# Altium footprint library 653 1xx 124 022.PcbLib: 14 footprints
Each footprint in its own frame and in the unit in brackets; x right, y up, seen from the top. Pads: shape width x height; smd on the part's side, far side on the other; paste and mask are expansions set on the pad; w line width, h text height; cw(c..) or ccw(c..) is an arc to the next point about the centre after c.
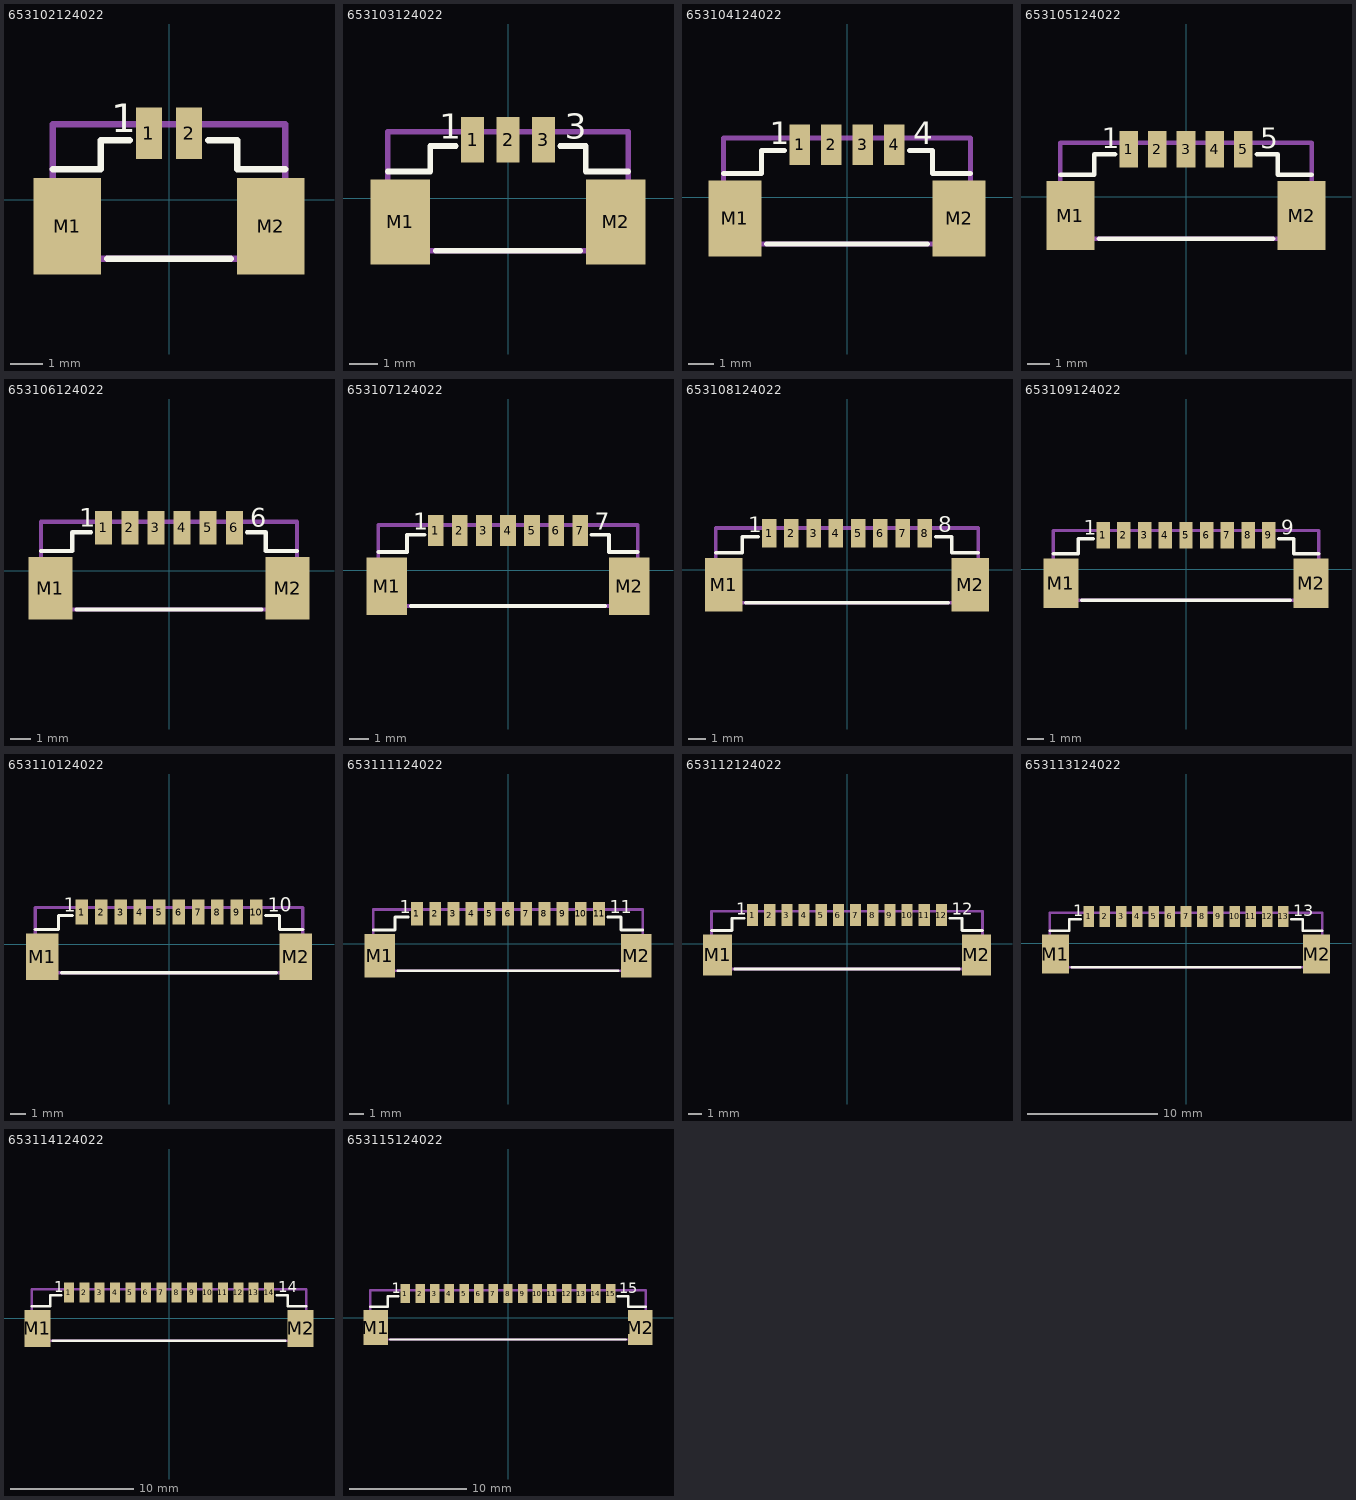
[diagram p0: the footprints below, top view; thin cyan lines are the x and y axes]

## 653102124022 [mm] "1.25mm SMT Male Vertical Shrouded Header, 2p"
height 4.75
pads (4):
  rect 0.81x1.6 smd: 1(-0.625,2.07) 2(0.625,2.07)
  rect 2.1x3 smd: M1(-3.175,-0.83) M2(3.175,-0.83)
Top Overlay:
  lines w0.2: -3.625,0.95 -2.125,0.95 -2.125,1.85 -1.225,1.85 ; -1.925,-1.85 1.925,-1.85 ; 1.225,1.85 2.125,1.85 2.125,0.95 3.625,0.95
  text "1" at -1.8,2.1 h0.89
Mechanical 13:
  lines w0.2: -3.625,-1.85 3.625,-1.85 3.625,2.35 -3.625,2.35 -3.625,-1.85
3D body "653102124022.stp": height 4.75, standoff 0, extent -3.725,-1.855 3.725,2.35

## 653103124022 [mm] "1.25mm SMT Male Vertical Shrouded Header, 3p"
height 4.75
pads (5):
  rect 0.81x1.6 smd: 1(-1.25,2.07) 2(0,2.07) 3(1.25,2.07)
  rect 2.1x3 smd: M1(-3.8,-0.83) M2(3.8,-0.83)
Top Overlay:
  lines w0.2: -4.25,0.95 -2.75,0.95 -2.75,1.85 -1.85,1.85 ; -2.55,-1.85 2.55,-1.85 ; 1.85,1.85 2.75,1.85 2.75,0.95 4.25,0.95
  text "3" at 2,2.1 h0.89
  text "1" at -2.425,2.1 h0.89
Mechanical 13:
  lines w0.2: -4.25,-1.85 4.25,-1.85 4.25,2.35 -4.25,2.35 -4.25,-1.85
3D body "653103124022.stp": height 4.75, standoff 0, extent -4.35,-1.855 4.35,2.35

## 653104124022 [mm] "1.25mm SMT Male Vertical Shrouded Header, 4p"
height 4.75
pads (6):
  rect 0.81x1.6 smd: 1(-1.875,2.07) 2(-0.625,2.07) 3(0.625,2.07) 4(1.875,2.07)
  rect 2.1x3 smd: M1(-4.425,-0.83) M2(4.425,-0.83)
Top Overlay:
  lines w0.2: -4.875,0.95 -3.375,0.95 -3.375,1.85 -2.475,1.85 ; -3.175,-1.85 3.175,-1.85 ; 2.475,1.85 3.375,1.85 3.375,0.95 4.875,0.95
  text "4" at 2.625,2.1 h0.89
  text "1" at -3.05,2.1 h0.89
Mechanical 13:
  lines w0.2: -4.875,-1.85 -4.875,2.35 4.875,2.35 4.875,-1.85 -4.875,-1.85
3D body "653104124022.stp": height 4.75, standoff 0, extent -4.975,-1.855 4.975,2.35

## 653105124022 [mm] "1.25mm SMT Male Vertical Shrouded Header, 5p"
height 4.75
pads (7):
  rect 0.81x1.6 smd: 1(-2.5,2.07) 2(-1.25,2.07) 3(0,2.07) 4(1.25,2.07) 5(2.5,2.07)
  rect 2.1x3 smd: M1(-5.05,-0.83) M2(5.05,-0.83)
Top Overlay:
  lines w0.2: -5.5,0.95 -4,0.95 -4,1.85 -3.1,1.85 ; -3.8,-1.85 3.8,-1.85 ; 3.1,1.85 4,1.85 4,0.95 5.5,0.95
  text "5" at 3.25,2.1 h0.89
  text "1" at -3.675,2.1 h0.89
Mechanical 13:
  lines w0.2: -5.5,-1.85 -5.5,2.35 5.5,2.35 5.5,-1.85 -5.5,-1.85
3D body "653105124022.stp": height 4.75, standoff 0, extent -5.6,-1.855 5.6,2.35

## 653106124022 [mm] "1.25mm SMT Male Vertical Shrouded Header, 6p"
height 4.75
pads (8):
  rect 0.81x1.6 smd: 1(-3.125,2.07) 2(-1.875,2.07) 3(-0.625,2.07) 4(0.625,2.07) 5(1.875,2.07) 6(3.125,2.07)
  rect 2.1x3 smd: M1(-5.675,-0.83) M2(5.675,-0.83)
Top Overlay:
  lines w0.2: -6.125,0.95 -4.625,0.95 -4.625,1.85 -3.725,1.85 ; -4.425,-1.85 4.425,-1.85 ; 3.725,1.85 4.625,1.85 4.625,0.95 6.125,0.95
  text "6" at 3.875,2.1 h0.89
  text "1" at -4.3,2.1 h0.89
Mechanical 13:
  lines w0.2: -6.125,-1.85 -6.125,2.35 6.125,2.35 6.125,-1.85 -6.125,-1.85
3D body "653106124022.stp": height 4.75, standoff 0, extent -6.225,-1.855 6.225,2.35

## 653107124022 [mm] "1.25mm SMT Male Vertical Shrouded Header, 7p"
height 4.75
pads (9):
  rect 0.81x1.6 smd: 1(-3.75,2.07) 2(-2.5,2.07) 3(-1.25,2.07) 4(0,2.07) 5(1.25,2.07) 6(2.5,2.07) 7(3.75,2.07)
  rect 2.1x3 smd: M1(-6.3,-0.83) M2(6.3,-0.83)
Top Overlay:
  lines w0.2: -6.75,0.95 -5.25,0.95 -5.25,1.85 -4.35,1.85 ; -5.05,-1.85 5.05,-1.85 ; 4.35,1.85 5.25,1.85 5.25,0.95 6.75,0.95
  text "7" at 4.5,2.1 h0.89
  text "1" at -4.925,2.1 h0.89
Mechanical 13:
  lines w0.2: -6.75,-1.85 6.75,-1.85 6.75,2.35 -6.75,2.35 -6.75,-1.85
3D body "653107124022.stp": height 4.75, standoff 0, extent -6.85,-1.855 6.85,2.35

## 653108124022 [mm] "1.25mm SMT Male Vertical Shrouded Header, 8p"
height 4.75
pads (10):
  rect 0.81x1.6 smd: 1(-4.375,2.07) 2(-3.125,2.07) 3(-1.875,2.07) 4(-0.625,2.07) 5(0.625,2.07) 6(1.875,2.07) 7(3.125,2.07) 8(4.375,2.07)
  rect 2.1x3 smd: M1(-6.925,-0.83) M2(6.925,-0.83)
Top Overlay:
  lines w0.2: -7.375,0.95 -5.875,0.95 -5.875,1.85 -4.975,1.85 ; -5.675,-1.85 5.675,-1.85 ; 4.975,1.85 5.875,1.85 5.875,0.95 7.375,0.95
  text "8" at 5.125,2.1 h0.89
  text "1" at -5.55,2.1 h0.89
Mechanical 13:
  lines w0.2: -7.375,-1.85 7.375,-1.85 7.375,2.35 -7.375,2.35 -7.375,-1.85
3D body "653108124022.stp": height 4.75, standoff 0, extent -7.475,-1.855 7.475,2.35

## 653109124022 [mm] "1.25mm SMT Male Vertical Shrouded Header, 9p"
height 4.75
pads (11):
  rect 0.81x1.6 smd: 1(-5,2.07) 2(-3.75,2.07) 3(-2.5,2.07) 4(-1.25,2.07) 5(0,2.07) 6(1.25,2.07) 7(2.5,2.07) 8(3.75,2.07) 9(5,2.07)
  rect 2.1x3 smd: M1(-7.55,-0.83) M2(7.55,-0.83)
Top Overlay:
  lines w0.2: -8,0.95 -6.5,0.95 -6.5,1.85 -5.6,1.85 ; -6.3,-1.85 6.3,-1.85 ; 5.6,1.85 6.5,1.85 6.5,0.95 8,0.95
  text "9" at 5.75,2.1 h0.89
  text "1" at -6.175,2.1 h0.89
Mechanical 13:
  lines w0.2: -8,-1.85 -8,2.35 8,2.35 8,-1.85 -8,-1.85
3D body "653109124022.stp": height 4.75, standoff 0, extent -8.1,-1.855 8.1,2.35

## 653110124022 [mm] "1.25mm SMT Male Vertical Shrouded Header, 10p"
height 4.75
pads (12):
  rect 0.81x1.6 smd: 1(-5.625,2.07) 2(-4.375,2.07) 3(-3.125,2.07) 4(-1.875,2.07) 5(-0.625,2.07) 6(0.625,2.07) 7(1.875,2.07) 8(3.125,2.07) 9(4.375,2.07) 10(5.625,2.07)
  rect 2.1x3 smd: M1(-8.175,-0.83) M2(8.175,-0.83)
Top Overlay:
  lines w0.2: -8.625,0.95 -7.125,0.95 -7.125,1.85 -6.225,1.85 ; -6.925,-1.85 6.925,-1.85 ; 6.225,1.85 7.125,1.85 7.125,0.95 8.625,0.95
  text "10" at 6.375,2.1 h0.89
  text "1" at -6.8,2.1 h0.89
Mechanical 13:
  lines w0.2: -8.625,-1.85 8.625,-1.85 8.625,2.35 -8.625,2.35 -8.625,-1.85
3D body "653110124022.stp": height 4.75, standoff 0, extent -8.725,-1.855 8.725,2.35

## 653111124022 [mm] "1.25mm SMT Male Vertical Shrouded Header, 11p"
height 4.75
pads (13):
  rect 0.81x1.6 smd: 1(-6.25,2.07) 2(-5,2.07) 3(-3.75,2.07) 4(-2.5,2.07) 5(-1.25,2.07) 6(0,2.07) 7(1.25,2.07) 8(2.5,2.07) 9(3.75,2.07) 10(5,2.07) 11(6.25,2.07)
  rect 2.1x3 smd: M1(-8.8,-0.83) M2(8.8,-0.83)
Top Overlay:
  lines w0.2: -9.25,0.95 -7.75,0.95 -7.75,1.85 -6.85,1.85 ; -7.55,-1.85 7.55,-1.85 ; 6.85,1.85 7.75,1.85 7.75,0.95 9.25,0.95
  text "11" at 7,2.1 h0.89
  text "1" at -7.425,2.1 h0.89
Mechanical 13:
  lines w0.2: -9.25,-1.85 -9.25,2.35 9.25,2.35 9.25,-1.85 -9.25,-1.85
3D body "653111124022.stp": height 4.75, standoff 0, extent -9.35,-1.855 9.35,2.35

## 653112124022 [mm] "1.25mm SMT Male Vertical Shrouded Header, 12p"
height 4.75
pads (14):
  rect 0.81x1.6 smd: 1(-6.875,2.07) 2(-5.625,2.07) 3(-4.375,2.07) 4(-3.125,2.07) 5(-1.875,2.07) 6(-0.625,2.07) 7(0.625,2.07) 8(1.875,2.07) 9(3.125,2.07) 10(4.375,2.07) 11(5.625,2.07) 12(6.875,2.07)
  rect 2.1x3 smd: M1(-9.425,-0.83) M2(9.425,-0.83)
Top Overlay:
  lines w0.2: -9.875,0.95 -8.375,0.95 -8.375,1.85 -7.475,1.85 ; -8.175,-1.85 8.175,-1.85 ; 7.475,1.85 8.375,1.85 8.375,0.95 9.875,0.95
  text "12" at 7.625,2.1 h0.89
  text "1" at -8.05,2.1 h0.89
Mechanical 13:
  lines w0.2: -9.875,-1.85 9.875,-1.85 9.875,2.35 -9.875,2.35 -9.875,-1.85
3D body "653112124022.stp": height 4.75, standoff 0, extent -9.975,-1.855 9.975,2.35

## 653113124022 [mm] "1.25mm SMT Male Vertical Shrouded Header, 13p"
height 4.75
pads (15):
  rect 0.81x1.6 smd: 1(-7.5,2.07) 2(-6.25,2.07) 3(-5,2.07) 4(-3.75,2.07) 5(-2.5,2.07) 6(-1.25,2.07) 7(0,2.07) 8(1.25,2.07) 9(2.5,2.07) 10(3.75,2.07) 11(5,2.07) 12(6.25,2.07) 13(7.5,2.07)
  rect 2.1x3 smd: M1(-10.05,-0.83) M2(10.05,-0.83)
Top Overlay:
  lines w0.2: -10.5,0.95 -9,0.95 -9,1.85 -8.1,1.85 ; -8.8,-1.85 8.8,-1.85 ; 8.1,1.85 9,1.85 9,0.95 10.5,0.95
  text "13" at 8.25,2.1 h0.89
  text "1" at -8.675,2.1 h0.89
Mechanical 13:
  lines w0.2: -10.5,-1.85 -10.5,2.35 10.5,2.35 10.5,-1.85 -10.5,-1.85
3D body "653113124022.stp": height 4.75, standoff 0, extent -10.6,-1.855 10.6,2.35

## 653114124022 [mm] "1.25mm SMT Male Vertical Shrouded Header, 14p"
height 4.75
pads (16):
  rect 0.81x1.6 smd: 1(-8.125,2.07) 2(-6.875,2.07) 3(-5.625,2.07) 4(-4.375,2.07) 5(-3.125,2.07) 6(-1.875,2.07) 7(-0.625,2.07) 8(0.625,2.07) 9(1.875,2.07) 10(3.125,2.07) 11(4.375,2.07) 12(5.625,2.07) 13(6.875,2.07) 14(8.125,2.07)
  rect 2.1x3 smd: M1(-10.675,-0.83) M2(10.675,-0.83)
Top Overlay:
  lines w0.2: -11.125,0.95 -9.625,0.95 -9.625,1.85 -8.725,1.85 ; -9.425,-1.85 9.425,-1.85 ; 8.725,1.85 9.625,1.85 9.625,0.95 11.125,0.95
  text "1" at -9.3,2.1 h0.89
  text "14" at 8.875,2.1 h0.89
Mechanical 13:
  lines w0.2: -11.125,-1.85 11.125,-1.85 11.125,2.35 -11.125,2.35 -11.125,-1.85
3D body "653114124022.stp": height 4.75, standoff 0, extent -11.225,-1.855 11.225,2.35

## 653115124022 [mm] "1.25mm SMT Male Vertical Shrouded Header, 15p"
height 4.75
pads (17):
  rect 0.81x1.6 smd: 1(-8.75,2.07) 2(-7.5,2.07) 3(-6.25,2.07) 4(-5,2.07) 5(-3.75,2.07) 6(-2.5,2.07) 7(-1.25,2.07) 8(0,2.07) 9(1.25,2.07) 10(2.5,2.07) 11(3.75,2.07) 12(5,2.07) 13(6.25,2.07) 14(7.5,2.07) 15(8.75,2.07)
  rect 2.1x3 smd: M1(-11.3,-0.83) M2(11.3,-0.83)
Top Overlay:
  lines w0.2: -11.75,0.95 -10.25,0.95 -10.25,1.85 -9.35,1.85 ; -10.05,-1.85 10.05,-1.85 ; 9.35,1.85 10.25,1.85 10.25,0.95 11.75,0.95
  text "15" at 9.5,2.1 h0.89
  text "1" at -9.925,2.1 h0.89
Mechanical 13:
  lines w0.2: -11.75,-1.85 -11.75,2.35 11.75,2.35 11.75,-1.85 -11.75,-1.85
3D body "653115124022.stp": height 4.75, standoff 0, extent -11.85,-1.855 11.85,2.35